# Altium footprint library chipi.PcbLib: 14 footprints
Each footprint in its own frame and in the unit in brackets; x right, y up, seen from the top. Pads: shape width x height; smd on the part's side, far side on the other; paste and mask are expansions set on the pad; w line width, h text height; cw(c..) or ccw(c..) is an arc to the next point about the centre after c.
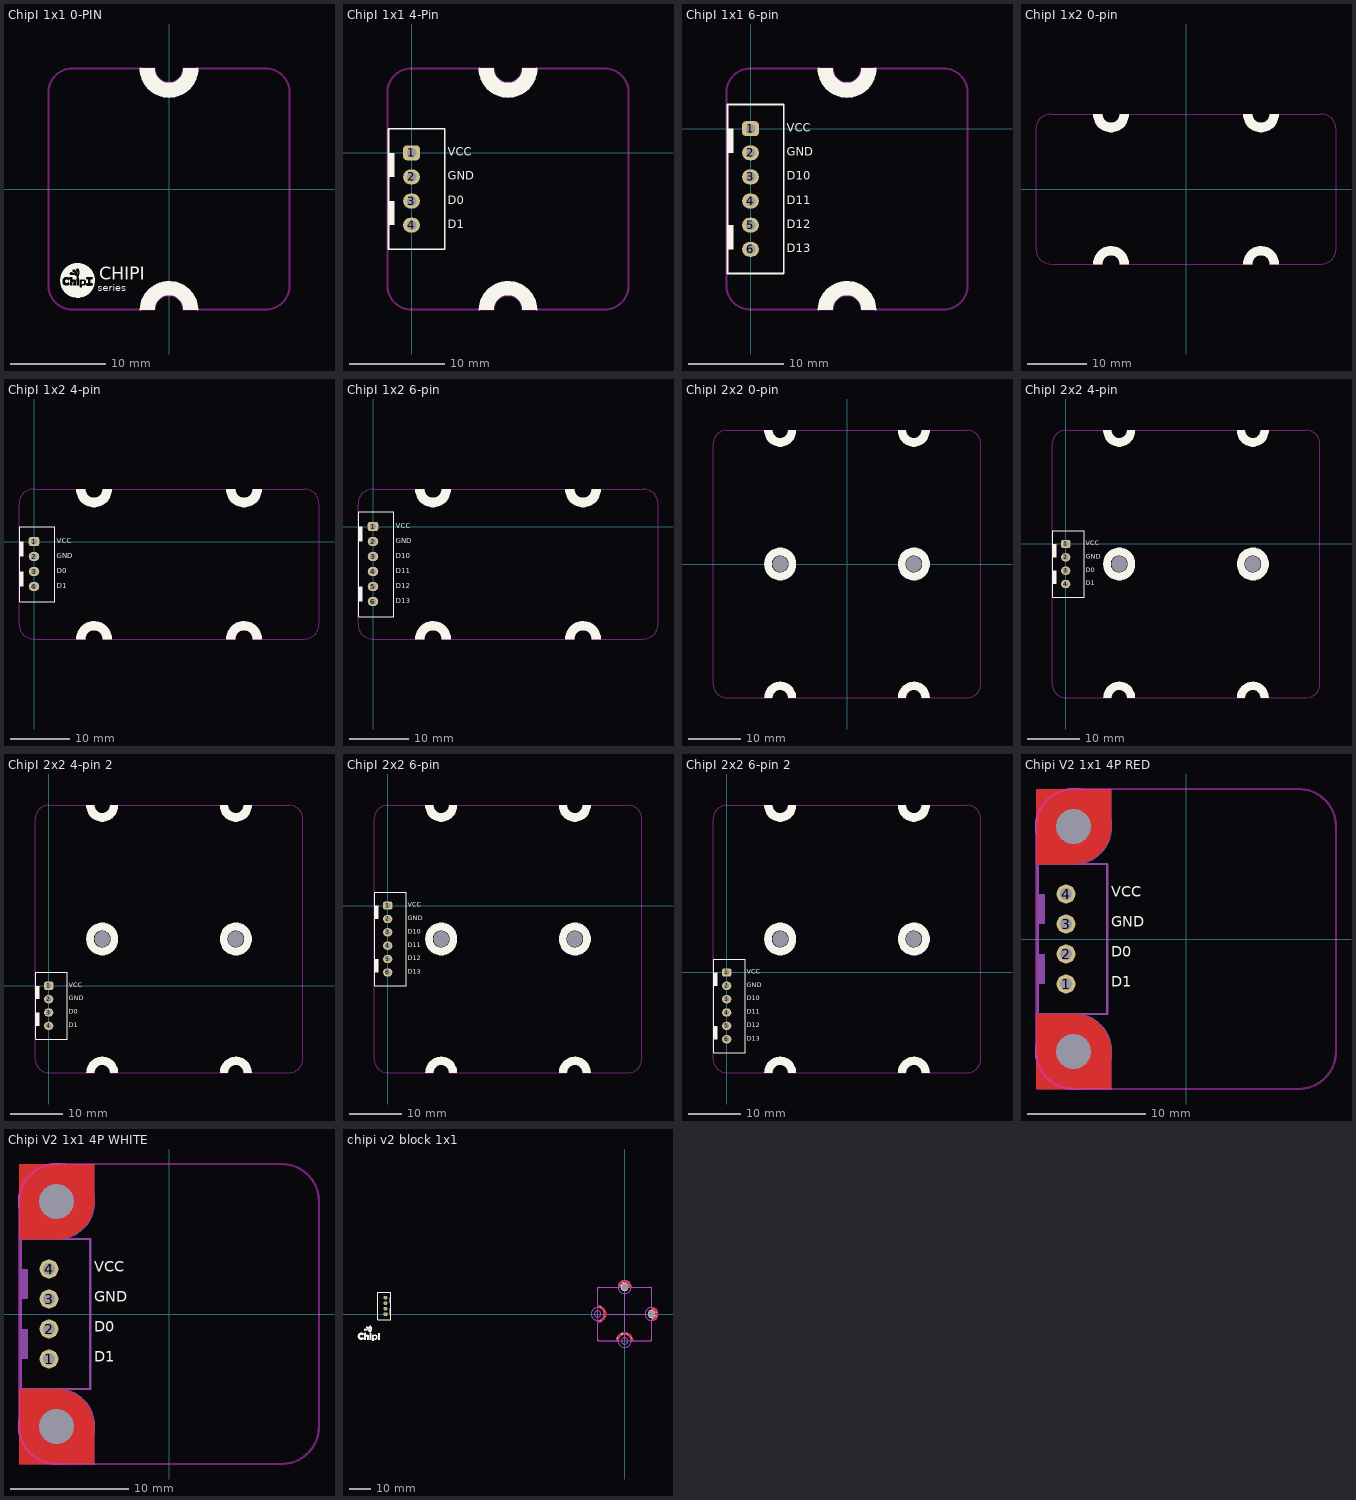
[diagram p0: the footprints below, top view; thin cyan lines are the x and y axes]

## ChipI 1x1 0-PIN [mil]
Top Overlay:
  drawing of 6 lines, arcs and shapes, not listed
  text "CHIPI" at -290,-395 h90
  text "series" at -295,-435 h50
Bottom Overlay:
  drawing of 7 lines, arcs and shapes, not listed
  text "Made in Vietnam" at 342,-32 h60
  text "by ChipFC" at 403,-32 h60
  text "www.chipfc.com" at 460,-28 h60
Keep-Out Layer:
  lines w8: -500,-400 ccw(c-400,-400) -400,-500 -59.06,-500 cw(c0,-500) 59.06,-500 400,-500 ccw(c400,-400) 500,-400 500,400 ccw(c400,400) 400,500 59.06,500 cw(c0,500) -59.06,500 -400,500 ccw(c-400,400) -500,400 -500,-400

## ChipI 1x1 4-Pin [mil]
pads (4):
  rrect50% 70x62 hole 39: 1(0,0)
  oval 70x62 hole 39: 2(0,-100) 3(0,-200) 4(0,-300)
Top Overlay:
  rectangle: -95,-100 -70,0
  rectangle: -95,-300 -70,-200
  region: 518.11,-650 459.06,-650 458.77,-644.21 456.51,-632.86 452.08,-622.16 445.65,-612.54 437.46,-604.35 427.84,-597.92 417.14,-593.49 405.79,-591.23 400,-590.94 394.21,-591.23 382.86,-593.49 372.16,-597.92 362.54,-604.35 354.35,-612.54 347.92,-622.16 343.49,-632.86 341.23,-644.21 340.94,-650 281.89,-650 282.87,-636.22 286.81,-616.54 294.69,-595.87 305.51,-580.12 321.26,-562.4 337.01,-551.57 349.8,-542.72 362.6,-537.8 374.41,-534.84 386.22,-532.87 399.02,-531.89 409.84,-531.89 429.53,-534.84 450.2,-542.72 460.04,-547.64 478.74,-561.42 492.52,-576.18 503.35,-593.9 513.19,-615.55 517.13,-631.3
  region: 281.89,350 340.94,350 341.23,344.21 343.49,332.86 347.92,322.16 354.35,312.54 362.54,304.35 372.16,297.92 382.86,293.49 394.21,291.23 400,290.94 405.79,291.23 417.14,293.49 427.84,297.92 437.46,304.35 445.65,312.54 452.08,322.16 456.51,332.86 458.77,344.21 459.06,350 518.11,350 517.13,336.22 513.19,316.54 505.31,295.87 494.49,280.12 478.74,262.4 462.99,251.57 450.2,242.72 437.4,237.8 425.59,234.84 413.78,232.87 400.98,231.89 390.16,231.89 370.47,234.84 349.8,242.72 339.96,247.64 321.26,261.42 307.48,276.18 296.65,293.9 286.81,315.55 282.87,331.3
  lines w8: 281.92,-649.29 cw(c400,-653.94) 518.08,-649.29 ; 281.89,350 ccw(c400,350) 518.11,350 ; -95,-400 -95,100 137.8,100 137.8,-400 -95,-400
  text "D1" at 150,-325 h60
  text "D0" at 150,-225 h60
  text "GND" at 150,-125 h60
  text "VCC" at 150,-25 h60
Bottom Overlay:
  drawing of 7 lines, arcs and shapes, not listed
  text "VCC" at 175,-25 h60
  text "GND" at 175,-125 h60
  text "D0" at 125,-225 h60
  text "D1" at 125,-325 h60
  text "www.chipfc.com" at 860,-178 h60
  text "by ChipFC" at 803,-182 h60
  text "Made in Vietnam" at 742,-182 h60
Keep-Out Layer:
  lines w8: -100,-550 ccw(c0,-550) 0,-650 340.94,-650 cw(c400,-650) 459.06,-650 800,-650 ccw(c800,-550) 900,-550 900,250 ccw(c800,250) 800,350 459.06,350 cw(c400,350) 340.94,350 0,350 ccw(c0,250) -100,250 -100,-550
3D body "User Library-PW10-04-M white.step": height 275.59, standoff -129.92, extent -89.41,-396.07 135,96.06

## ChipI 1x1 6-pin [mil]
pads (6):
  rrect50% 70x62 hole 39: 1(0,0)
  oval 70x62 hole 39: 2(0,-100) 3(0,-200) 4(0,-300) 5(0,-400) 6(0,-500)
Top Overlay:
  rectangle: -95,-100 -70,0
  rectangle: -95,-500 -70,-400
  region: 518.11,-750 459.06,-750 458.77,-744.21 456.51,-732.86 452.08,-722.16 445.65,-712.54 437.46,-704.35 427.84,-697.92 417.14,-693.49 405.79,-691.23 400,-690.94 394.21,-691.23 382.86,-693.49 372.16,-697.92 362.54,-704.35 354.35,-712.54 347.92,-722.16 343.49,-732.86 341.23,-744.21 340.94,-750 281.89,-750 282.87,-736.22 286.81,-716.54 294.69,-695.87 305.51,-680.12 321.26,-662.4 337.01,-651.57 349.8,-642.72 362.6,-637.8 374.41,-634.84 386.22,-632.87 399.02,-631.89 409.84,-631.89 429.53,-634.84 450.2,-642.72 460.04,-647.64 478.74,-661.42 492.52,-676.18 503.35,-693.9 513.19,-715.55 517.13,-731.3
  region: 281.89,250 340.94,250 341.23,244.21 343.49,232.86 347.92,222.16 354.35,212.54 362.54,204.35 372.16,197.92 382.86,193.49 394.21,191.23 400,190.94 405.79,191.23 417.14,193.49 427.84,197.92 437.46,204.35 445.65,212.54 452.08,222.16 456.51,232.86 458.77,244.21 459.06,250 518.11,250 517.13,236.22 513.19,216.54 505.31,195.87 494.49,180.12 478.74,162.4 462.99,151.57 450.2,142.72 437.4,137.8 425.59,134.84 413.78,132.87 400.98,131.89 390.16,131.89 370.47,134.84 349.8,142.72 339.96,147.64 321.26,161.42 307.48,176.18 296.65,193.9 286.81,215.55 282.87,231.3
  lines w8: 281.92,-749.29 cw(c400,-753.94) 518.08,-749.29 ; 281.89,250 ccw(c400,250) 518.11,250 ; -95,-600 -95,100 137.8,100 137.8,-600 -95,-600
  text "D13" at 150,-525 h60
  text "D12" at 150,-425 h60
  text "D11" at 150,-325 h60
  text "D10" at 150,-225 h60
  text "GND" at 150,-125 h60
  text "VCC" at 150,-25 h60
Bottom Overlay:
  drawing of 7 lines, arcs and shapes, not listed
  text "VCC" at 175,-25 h60
  text "GND" at 175,-125 h60
  text "D10" at 150,-225 h60
  text "D11" at 150,-325 h60
  text "D12" at 150,-425 h60
  text "D13" at 150,-525 h60
  text "Made in Vietnam" at 742,-282 h60
  text "by ChipFC" at 803,-282 h60
  text "www.chipfc.com" at 860,-278 h60
Keep-Out Layer:
  lines w8: -100,-650 ccw(c0,-650) 0,-750 340.94,-750 cw(c400,-750) 459.06,-750 800,-750 ccw(c800,-650) 900,-650 900,150 ccw(c800,150) 800,250 459.06,250 cw(c400,250) 340.94,250 0,250 ccw(c0,150) -100,150 -100,-650
3D body "User Library-PW10-06-M white.step": height 275.59, standoff -129.92, extent -89.41,-594.49 135,94.49

## ChipI 1x2 0-pin [mil]
Top Overlay:
  drawing of 8 lines, arcs and shapes, not listed
Bottom Overlay:
  drawing of 11 lines, arcs and shapes, not listed
  text "www.chipfc.com" at 960,-28 h60
  text "by ChipFC" at 903,-32 h60
  text "Made in Vietnam" at 842,-32 h60
Keep-Out Layer:
  lines w8: -1000,-400 ccw(c-900,-400) -900,-500 -559.06,-500 cw(c-500,-500) -440.94,-500 440.94,-500 cw(c500,-500) 559.06,-500 900,-500 ccw(c900,-400) 1000,-400 1000,400 ccw(c900,400) 900,500 559.06,500 cw(c500,500) 440.94,500 -440.94,500 cw(c-500,500) -559.06,500 -900,500 ccw(c-900,400) -1000,400 -1000,-400

## ChipI 1x2 4-pin [mil]
pads (4):
  rrect50% 70x62 hole 39: 1(0,0)
  oval 70x62 hole 39: 2(0,-100) 3(0,-200) 4(0,-300)
Top Overlay:
  drawing of 14 lines, arcs and shapes, not listed
  text "D1" at 150,-325 h60
  text "D0" at 150,-225 h60
  text "GND" at 150,-125 h60
  text "VCC" at 150,-25 h60
Bottom Overlay:
  drawing of 11 lines, arcs and shapes, not listed
  text "www.chipfc.com" at 1860,-178 h60
  text "by ChipFC" at 1803,-182 h60
  text "Made in Vietnam" at 1742,-182 h60
  text "VCC" at 175,-25 h60
  text "GND" at 175,-125 h60
  text "D0" at 125,-225 h60
  text "D1" at 125,-325 h60
Keep-Out Layer:
  lines w8: -100,-550 ccw(c0,-550) 0,-650 340.94,-650 cw(c400,-650) 459.06,-650 1340.94,-650 cw(c1400,-650) 1459.06,-650 1800,-650 ccw(c1800,-550) 1900,-550 1900,250 ccw(c1800,250) 1800,350 1459.06,350 cw(c1400,350) 1340.94,350 459.06,350 cw(c400,350) 340.94,350 0,350 ccw(c0,250) -100,250 -100,-550
3D body "User Library-PW10-04-M white.step": height 275.59, standoff -129.92, extent -89.41,-396.07 135,96.06

## ChipI 1x2 6-pin [mil]
pads (6):
  rrect50% 70x62 hole 39: 1(0,0)
  oval 70x62 hole 39: 2(0,-100) 3(0,-200) 4(0,-300) 5(0,-400) 6(0,-500)
Top Overlay:
  drawing of 14 lines, arcs and shapes, not listed
  text "D11" at 150,-325 h60
  text "D13" at 150,-525 h60
  text "VCC" at 150,-25 h60
  text "GND" at 150,-125 h60
  text "D10" at 150,-225 h60
  text "D12" at 150,-425 h60
Bottom Overlay:
  drawing of 11 lines, arcs and shapes, not listed
  text "www.chipfc.com" at 1860,-278 h60
  text "by ChipFC" at 1803,-282 h60
  text "Made in Vietnam" at 1742,-282 h60
  text "D12" at 150,-425 h60
  text "D10" at 150,-225 h60
  text "GND" at 175,-125 h60
  text "VCC" at 175,-25 h60
  text "D13" at 150,-525 h60
  text "D11" at 150,-325 h60
Keep-Out Layer:
  lines w8: -100,-650 ccw(c0,-650) 0,-750 340.94,-750 cw(c400,-750) 459.06,-750 1340.94,-750 cw(c1400,-750) 1459.06,-750 1800,-750 ccw(c1800,-650) 1900,-650 1900,150 ccw(c1800,150) 1800,250 1459.06,250 cw(c1400,250) 1340.94,250 459.06,250 cw(c400,250) 340.94,250 0,250 ccw(c0,150) -100,150 -100,-650
3D body "User Library-PW10-06-M white.step": height 275.59, standoff -129.92, extent -89.41,-594.49 135,94.49

## ChipI 2x2 0-pin [mm]
pads (2):
  round 0 hole 3: HOLE(-12.7,0) HOLE(12.7,0)
Top Overlay:
  drawing of 12 lines, arcs and shapes, not listed
Bottom Overlay:
  drawing of 15 lines, arcs and shapes, not listed
  text "Made in Vietnam" at 21.387,-13.513 h1.52
  text "by ChipFC" at 22.936,-13.513 h1.52
  text "www.chipfc.com" at 24.384,-13.411 h1.52
Keep-Out Layer:
  lines w0.203: -25.4,-22.86 ccw(c-22.86,-22.86) -22.86,-25.4 -14.2,-25.4 cw(c-12.7,-25.4) -11.2,-25.4 11.2,-25.4 cw(c12.7,-25.4) 14.2,-25.4 22.86,-25.4 ccw(c22.86,-22.86) 25.4,-22.86 25.4,22.86 ccw(c22.86,22.86) 22.86,25.4 14.2,25.4 cw(c12.7,25.4) 11.2,25.4 -11.2,25.4 cw(c-12.7,25.4) -14.2,25.4 -22.86,25.4 ccw(c-22.86,22.86) -25.4,22.86 -25.4,-22.86

## ChipI 2x2 4-pin [mil]
pads (6):
  rrect50% 70x62 hole 39: 1(0,0)
  oval 70x62 hole 39: 2(0,-100) 3(0,-200) 4(0,-300)
  round 0 hole 118.11: HOLE(400,-150) HOLE(1400,-150)
Top Overlay:
  drawing of 18 lines, arcs and shapes, not listed
  text "VCC" at 150,-25 h60
  text "GND" at 150,-125 h60
  text "D0" at 150,-225 h60
  text "D1" at 150,-325 h60
Bottom Overlay:
  drawing of 15 lines, arcs and shapes, not listed
  text "D1" at 125,-325 h60
  text "D0" at 125,-225 h60
  text "GND" at 175,-125 h60
  text "VCC" at 175,-25 h60
  text "Made in Vietnam" at 1742,-682 h60
  text "by ChipFC" at 1803,-682 h60
  text "www.chipfc.com" at 1860,-678 h60
Keep-Out Layer:
  lines w8: -100,-1050 ccw(c0,-1050) 0,-1150 340.94,-1150 cw(c400,-1150) 459.06,-1150 1340.94,-1150 cw(c1400,-1150) 1459.06,-1150 1800,-1150 ccw(c1800,-1050) 1900,-1050 1900,750 ccw(c1800,750) 1800,850 1459.06,850 cw(c1400,850) 1340.94,850 459.06,850 cw(c400,850) 340.94,850 0,850 ccw(c0,750) -100,750 -100,-1050
3D body "User Library-PW10-04-M white.step": height 275.59, standoff -129.92, extent -89.41,-396.07 135,96.06

## ChipI 2x2 4-pin 2 [mil]
pads (6):
  rrect50% 70x62 hole 39: 1(0,0)
  oval 70x62 hole 39: 2(0,-100) 3(0,-200) 4(0,-300)
  round 0 hole 118.11: HOLE(400,350) HOLE(1400,350)
Top Overlay:
  drawing of 18 lines, arcs and shapes, not listed
  text "VCC" at 150,-25 h60
  text "GND" at 150,-125 h60
  text "D0" at 150,-225 h60
  text "D1" at 150,-325 h60
Bottom Overlay:
  drawing of 15 lines, arcs and shapes, not listed
  text "D1" at 125,-325 h60
  text "D0" at 125,-225 h60
  text "GND" at 175,-125 h60
  text "VCC" at 175,-25 h60
  text "Made in Vietnam" at 1742,-182 h60
  text "by ChipFC" at 1803,-182 h60
  text "www.chipfc.com" at 1860,-178 h60
Keep-Out Layer:
  lines w8: -100,-550 ccw(c0,-550) 0,-650 340.94,-650 cw(c400,-650) 459.06,-650 1340.94,-650 cw(c1400,-650) 1459.06,-650 1800,-650 ccw(c1800,-550) 1900,-550 1900,1250 ccw(c1800,1250) 1800,1350 1459.06,1350 cw(c1400,1350) 1340.94,1350 459.06,1350 cw(c400,1350) 340.94,1350 0,1350 ccw(c0,1250) -100,1250 -100,-550
3D body "User Library-PW10-04-M white.step": height 275.59, standoff -129.92, extent -89.41,-396.07 135,96.06

## ChipI 2x2 6-pin [mil]
pads (8):
  rrect50% 70x62 hole 39: 1(0,0)
  oval 70x62 hole 39: 2(0,-100) 3(0,-200) 4(0,-300) 5(0,-400) 6(0,-500)
  round 0 hole 118.11: HOLE(400,-250) HOLE(1400,-250)
Top Overlay:
  drawing of 18 lines, arcs and shapes, not listed
  text "VCC" at 150,-25 h60
  text "GND" at 150,-125 h60
  text "D10" at 150,-225 h60
  text "D11" at 150,-325 h60
  text "D12" at 150,-425 h60
  text "D13" at 150,-525 h60
Bottom Overlay:
  drawing of 15 lines, arcs and shapes, not listed
  text "Made in Vietnam" at 1742,-782 h60
  text "by ChipFC" at 1803,-782 h60
  text "www.chipfc.com" at 1860,-778 h60
  text "D13" at 150,-525 h60
  text "D12" at 150,-425 h60
  text "D11" at 150,-325 h60
  text "D10" at 150,-225 h60
  text "GND" at 175,-125 h60
  text "VCC" at 175,-25 h60
Keep-Out Layer:
  lines w8: -100,-1150 ccw(c0,-1150) 0,-1250 340.94,-1250 cw(c400,-1250) 459.06,-1250 1340.94,-1250 cw(c1400,-1250) 1459.06,-1250 1800,-1250 ccw(c1800,-1150) 1900,-1150 1900,650 ccw(c1800,650) 1800,750 1459.06,750 cw(c1400,750) 1340.94,750 459.06,750 cw(c400,750) 340.94,750 0,750 ccw(c0,650) -100,650 -100,-1150
3D body "User Library-PW10-06-M white.step": height 275.59, standoff -129.92, extent -89.41,-594.49 135,94.49

## ChipI 2x2 6-pin 2 [mil]
pads (8):
  rrect50% 70x62 hole 39: 1(0,0)
  oval 70x62 hole 39: 2(0,-100) 3(0,-200) 4(0,-300) 5(0,-400) 6(0,-500)
  round 0 hole 118.11: HOLE(400,250) HOLE(1400,250)
Top Overlay:
  drawing of 18 lines, arcs and shapes, not listed
  text "D11" at 150,-325 h60
  text "D13" at 150,-525 h60
  text "VCC" at 150,-25 h60
  text "GND" at 150,-125 h60
  text "D10" at 150,-225 h60
  text "D12" at 150,-425 h60
Bottom Overlay:
  drawing of 15 lines, arcs and shapes, not listed
  text "D12" at 150,-425 h60
  text "D10" at 150,-225 h60
  text "GND" at 175,-125 h60
  text "VCC" at 175,-25 h60
  text "D13" at 150,-525 h60
  text "D11" at 150,-325 h60
  text "www.chipfc.com" at 1860,-278 h60
  text "by ChipFC" at 1803,-282 h60
  text "Made in Vietnam" at 1742,-282 h60
Keep-Out Layer:
  lines w8: -100,-650 ccw(c0,-650) 0,-750 340.94,-750 cw(c400,-750) 459.06,-750 1340.94,-750 cw(c1400,-750) 1459.06,-750 1800,-750 ccw(c1800,-650) 1900,-650 1900,1150 ccw(c1800,1150) 1800,1250 1459.06,1250 cw(c1400,1250) 1340.94,1250 459.06,1250 cw(c400,1250) 340.94,1250 0,1250 ccw(c0,1150) -100,1150 -100,-650
3D body "User Library-PW10-06-M white.step": height 275.59, standoff -129.92, extent -89.41,-594.49 135,94.49

## Chipi V2 1x1 4P RED [mm]
pads (6):
  round 1.6 hole 1: 1(-10.16,-3.81) 2(-10.16,-1.27) 3(-10.16,1.27) 4(-10.16,3.81)
  round 0 hole 3 unplated: HOLE(-9.525,-9.525) HOLE(-9.525,9.525)
Top Layer:
  pour cut-out: -6.35,12.7 -6.35,9.525 -6.35,9.317 -6.404,8.904 -6.512,8.502 -6.671,8.118 -6.879,7.757 -7.133,7.427 -7.427,7.133 -7.757,6.879 -8.118,6.671 -8.502,6.512 -8.904,6.404 -9.317,6.35 -9.525,6.35 -12.7,6.35 -12.7,12.7
  pour cut-out: -12.7,-6.35 -9.525,-6.35 -9.317,-6.35 -8.904,-6.404 -8.502,-6.512 -8.118,-6.671 -7.757,-6.879 -7.427,-7.133 -7.133,-7.427 -6.879,-7.757 -6.671,-8.118 -6.512,-8.502 -6.404,-8.904 -6.35,-9.317 -6.35,-9.525 -6.35,-12.7 -12.7,-12.7
Bottom Layer:
  pour cut-out: -12.7,-6.35 -9.525,-6.35 -9.317,-6.35 -8.904,-6.404 -8.502,-6.512 -8.118,-6.671 -7.757,-6.879 -7.427,-7.133 -7.133,-7.427 -6.879,-7.757 -6.671,-8.118 -6.512,-8.502 -6.404,-8.904 -6.35,-9.317 -6.35,-9.525 -6.35,-12.7 -12.7,-12.7
  pour cut-out: -6.35,12.7 -6.35,9.525 -6.35,9.317 -6.404,8.904 -6.512,8.502 -6.671,8.118 -6.879,7.757 -7.133,7.427 -7.427,7.133 -7.757,6.879 -8.118,6.671 -8.502,6.512 -8.904,6.404 -9.317,6.35 -9.525,6.35 -12.7,6.35 -12.7,12.7
Top Overlay:
  text "D1" at -6.35,-4.318 h1.52
  text "D0" at -6.35,-1.778 h1.52
  text "GND" at -6.35,0.762 h1.52
  text "VCC" at -6.35,3.302 h1.52
Bottom Overlay:
  drawing of 3 lines, arcs and shapes, not listed
  text "VCC" at -5.842,3.302 h1.52
  text "GND" at -5.715,0.762 h1.52
  text "D0" at -7.112,-1.778 h1.52
  text "D1" at -7.239,-4.318 h1.52
  text "chipfc.com" at 4.35,-11.861 h1.52
Keep-Out Layer:
  lines w0.203: -12.7,-9.525 ccw(c-9.525,-9.525) -9.525,-12.7 9.525,-12.7 ccw(c9.525,-9.525) 12.7,-9.525 12.7,9.525 ccw(c9.525,9.525) 9.525,12.7 -9.525,12.7 ccw(c-9.525,9.525) -12.7,9.525 -12.7,-9.525
Mechanical 1:
  circle w0.203: c-9.525,-9.525 r3.175
  circle w0.203: c-9.525,9.525 r3.175
  rectangle: -12.573,1.27 -11.938,3.81
  rectangle: -12.573,-3.81 -11.938,-1.27
  lines w0.203: -12.56,-6.35 -6.66,-6.35 -6.66,6.35 -12.56,6.35 -12.56,-6.35
3D body "JST-B4B-XH-RED.STEP": height 7, standoff -3.4, extent -12.46,-6.2 -6.71,6.2

## Chipi V2 1x1 4P WHITE [mm]
pads (6):
  round 1.6 hole 1: 1(-10.16,-3.81) 2(-10.16,-1.27) 3(-10.16,1.27) 4(-10.16,3.81)
  round 0 hole 3 unplated: HOLE(-9.525,-9.525) HOLE(-9.525,9.525)
Top Layer:
  pour cut-out: -6.35,12.7 -6.35,9.525 -6.35,9.317 -6.404,8.904 -6.512,8.502 -6.671,8.118 -6.879,7.757 -7.133,7.427 -7.427,7.133 -7.757,6.879 -8.118,6.671 -8.502,6.512 -8.904,6.404 -9.317,6.35 -9.525,6.35 -12.7,6.35 -12.7,12.7
  pour cut-out: -12.7,-6.35 -9.525,-6.35 -9.317,-6.35 -8.904,-6.404 -8.502,-6.512 -8.118,-6.671 -7.757,-6.879 -7.427,-7.133 -7.133,-7.427 -6.879,-7.757 -6.671,-8.118 -6.512,-8.502 -6.404,-8.904 -6.35,-9.317 -6.35,-9.525 -6.35,-12.7 -12.7,-12.7
Bottom Layer:
  pour cut-out: -12.7,-6.35 -9.525,-6.35 -9.317,-6.35 -8.904,-6.404 -8.502,-6.512 -8.118,-6.671 -7.757,-6.879 -7.427,-7.133 -7.133,-7.427 -6.879,-7.757 -6.671,-8.118 -6.512,-8.502 -6.404,-8.904 -6.35,-9.317 -6.35,-9.525 -6.35,-12.7 -12.7,-12.7
  pour cut-out: -6.35,12.7 -6.35,9.525 -6.35,9.317 -6.404,8.904 -6.512,8.502 -6.671,8.118 -6.879,7.757 -7.133,7.427 -7.427,7.133 -7.757,6.879 -8.118,6.671 -8.502,6.512 -8.904,6.404 -9.317,6.35 -9.525,6.35 -12.7,6.35 -12.7,12.7
Top Overlay:
  text "D1" at -6.35,-4.318 h1.52
  text "D0" at -6.35,-1.778 h1.52
  text "GND" at -6.35,0.762 h1.52
  text "VCC" at -6.35,3.302 h1.52
Bottom Overlay:
  drawing of 3 lines, arcs and shapes, not listed
  text "VCC" at -5.842,3.302 h1.52
  text "GND" at -5.715,0.762 h1.52
  text "D0" at -7.112,-1.778 h1.52
  text "D1" at -7.239,-4.318 h1.52
  text "chipfc.com" at 4.35,-11.861 h1.52
Keep-Out Layer:
  lines w0.203: -12.7,-9.525 ccw(c-9.525,-9.525) -9.525,-12.7 9.525,-12.7 ccw(c9.525,-9.525) 12.7,-9.525 12.7,9.525 ccw(c9.525,9.525) 9.525,12.7 -9.525,12.7 ccw(c-9.525,9.525) -12.7,9.525 -12.7,-9.525
Mechanical 1:
  circle w0.203: c-9.525,-9.525 r3.175
  circle w0.203: c-9.525,9.525 r3.175
  rectangle: -12.573,1.27 -11.938,3.81
  rectangle: -12.573,-3.81 -11.938,-1.27
  lines w0.203: -12.56,-6.35 -6.66,-6.35 -6.66,6.35 -12.56,6.35 -12.56,-6.35
3D body "JST-B4B-XH-WHITE.STEP": height 7, standoff -3.4, extent -12.46,-6.2 -6.71,6.2

## chipi v2 block 1x1 [mm]
pads (6):
  rrect50% 1.8x1.6 hole 1: 1(-111,-0.04)
  oval 1.8x1.6 hole 1: 2(-111,2.5) 3(-111,5.04) 4(-111,7.58)
  round 0 hole 3.1 unplated: HOLE(0,12.5) HOLE(12.5,0)
via 3.25,-11.25 diameter 0.8 hole 0.4
via -1.25,-9.25 diameter 0.8 hole 0.4
via -3.25,-11.25 diameter 0.8 hole 0.4
via 1.25,-9.25 diameter 0.8 hole 0.4
via -9.25,-1.25 diameter 0.8 hole 0.4
via -11.25,3.25 diameter 0.8 hole 0.4
via -9.25,1.25 diameter 0.8 hole 0.4
via -11.25,-3.25 diameter 0.8 hole 0.4
via 2.125,13.3 diameter 0.8 hole 0.4
via 0.825,14.575 diameter 0.8 hole 0.4
via -2.075,13.325 diameter 0.8 hole 0.4
via -0.8,14.625 diameter 0.8 hole 0.4
via 14.625,0.8 diameter 0.8 hole 0.4
via 13.325,2.075 diameter 0.8 hole 0.4
via 14.575,-0.825 diameter 0.8 hole 0.4
via 13.3,-2.125 diameter 0.8 hole 0.4
Top Layer:
  region: -3,12.5 -1.5,12.5 -1.493,12.647 -1.435,12.935 -1.323,13.207 -1.16,13.452 -0.952,13.66 -0.707,13.823 -0.435,13.935 -0.147,13.993 0,14 0.147,13.993 0.435,13.935 0.707,13.823 0.952,13.66 1.16,13.452 1.323,13.207 1.435,12.935 1.493,12.647 1.5,12.5 3,12.5 3,12.697 2.949,13.087 2.847,13.466 2.696,13.83 2.5,14.17 2.26,14.482 1.982,14.76 1.67,15 1.33,15.196 0.966,15.347 0.587,15.449 0.197,15.5 0,15.5 -0.197,15.5 -0.587,15.449 -0.966,15.347 -1.33,15.196 -1.67,15 -1.982,14.76 -2.26,14.482 -2.5,14.17 -2.696,13.83 -2.847,13.466 -2.949,13.087 -3,12.697
  region: 12.5,3 12.5,1.5 12.647,1.493 12.935,1.435 13.207,1.323 13.452,1.16 13.66,0.952 13.823,0.707 13.935,0.435 13.993,0.147 14,0 13.993,-0.147 13.935,-0.435 13.823,-0.707 13.66,-0.952 13.452,-1.16 13.207,-1.323 12.935,-1.435 12.647,-1.493 12.5,-1.5 12.5,-3 12.697,-3 13.087,-2.949 13.466,-2.847 13.83,-2.696 14.17,-2.5 14.482,-2.26 14.76,-1.982 15,-1.67 15.196,-1.33 15.347,-0.966 15.449,-0.587 15.5,-0.197 15.5,0 15.5,0.197 15.449,0.587 15.347,0.966 15.196,1.33 15,1.67 14.76,1.982 14.482,2.26 14.17,2.5 13.83,2.696 13.466,2.847 13.087,2.949 12.697,3
  region: -3,-12.5 -2.994,-12.304 -2.942,-11.915 -2.841,-11.536 -2.691,-11.173 -2.494,-10.833 -2.256,-10.522 -1.978,-10.244 -1.667,-10.006 -1.327,-9.809 -0.964,-9.659 -0.585,-9.558 -0.196,-9.506 0,-9.5 0.196,-9.506 0.585,-9.558 0.964,-9.659 1.327,-9.809 1.667,-10.006 1.978,-10.244 2.256,-10.522 2.494,-10.833 2.691,-11.173 2.841,-11.536 2.942,-11.915 2.994,-12.304 3,-12.5 4,-12.5 4,-12.238 3.932,-11.718 3.796,-11.211 3.595,-10.727 3.333,-10.273 3.014,-9.857 2.643,-9.486 2.227,-9.167 1.773,-8.905 1.289,-8.704 0.782,-8.568 0.262,-8.5 0,-8.5 -0.262,-8.5 -0.782,-8.568 -1.289,-8.704 -1.773,-8.905 -2.227,-9.167 -2.643,-9.486 -3.014,-9.857 -3.333,-10.273 -3.595,-10.727 -3.796,-11.211 -3.932,-11.718 -4,-12.238 -4,-12.5
  region: -12.5,3 -12.304,2.994 -11.915,2.942 -11.536,2.841 -11.173,2.691 -10.833,2.494 -10.522,2.256 -10.244,1.978 -10.006,1.667 -9.809,1.327 -9.659,0.964 -9.558,0.585 -9.506,0.196 -9.5,0 -9.506,-0.196 -9.558,-0.585 -9.659,-0.964 -9.809,-1.327 -10.006,-1.667 -10.244,-1.978 -10.522,-2.256 -10.833,-2.494 -11.173,-2.691 -11.536,-2.841 -11.915,-2.942 -12.304,-2.994 -12.5,-3 -12.5,-4 -12.238,-4 -11.718,-3.932 -11.211,-3.796 -10.727,-3.595 -10.273,-3.333 -9.857,-3.014 -9.486,-2.643 -9.167,-2.227 -8.905,-1.773 -8.704,-1.289 -8.568,-0.782 -8.5,-0.262 -8.5,0 -8.5,0.262 -8.568,0.782 -8.704,1.289 -8.905,1.773 -9.167,2.227 -9.486,2.643 -9.857,3.014 -10.273,3.333 -10.727,3.595 -11.211,3.796 -11.718,3.932 -12.238,4 -12.5,4
Bottom Layer:
  region: -3,12.5 -1.5,12.5 -1.493,12.647 -1.435,12.935 -1.323,13.207 -1.16,13.452 -0.952,13.66 -0.707,13.823 -0.435,13.935 -0.147,13.993 0,14 0.147,13.993 0.435,13.935 0.707,13.823 0.952,13.66 1.16,13.452 1.323,13.207 1.435,12.935 1.493,12.647 1.5,12.5 3,12.5 3,12.697 2.949,13.087 2.847,13.466 2.696,13.83 2.5,14.17 2.26,14.482 1.982,14.76 1.67,15 1.33,15.196 0.966,15.347 0.587,15.449 0.197,15.5 0,15.5 -0.197,15.5 -0.587,15.449 -0.966,15.347 -1.33,15.196 -1.67,15 -1.982,14.76 -2.26,14.482 -2.5,14.17 -2.696,13.83 -2.847,13.466 -2.949,13.087 -3,12.697
  region: 12.5,3 12.5,1.5 12.647,1.493 12.935,1.435 13.207,1.323 13.452,1.16 13.66,0.952 13.823,0.707 13.935,0.435 13.993,0.147 14,0 13.993,-0.147 13.935,-0.435 13.823,-0.707 13.66,-0.952 13.452,-1.16 13.207,-1.323 12.935,-1.435 12.647,-1.493 12.5,-1.5 12.5,-3 12.697,-3 13.087,-2.949 13.466,-2.847 13.83,-2.696 14.17,-2.5 14.482,-2.26 14.76,-1.982 15,-1.67 15.196,-1.33 15.347,-0.966 15.449,-0.587 15.5,-0.197 15.5,0 15.5,0.197 15.449,0.587 15.347,0.966 15.196,1.33 15,1.67 14.76,1.982 14.482,2.26 14.17,2.5 13.83,2.696 13.466,2.847 13.087,2.949 12.697,3
  region: -3,-12.5 -2.994,-12.304 -2.942,-11.915 -2.841,-11.536 -2.691,-11.173 -2.494,-10.833 -2.256,-10.522 -1.978,-10.244 -1.667,-10.006 -1.327,-9.809 -0.964,-9.659 -0.585,-9.558 -0.196,-9.506 0,-9.5 0.196,-9.506 0.585,-9.558 0.964,-9.659 1.327,-9.809 1.667,-10.006 1.978,-10.244 2.256,-10.522 2.494,-10.833 2.691,-11.173 2.841,-11.536 2.942,-11.915 2.994,-12.304 3,-12.5 4,-12.5 4,-12.238 3.932,-11.718 3.796,-11.211 3.595,-10.727 3.333,-10.273 3.014,-9.857 2.643,-9.486 2.227,-9.167 1.773,-8.905 1.289,-8.704 0.782,-8.568 0.262,-8.5 0,-8.5 -0.262,-8.5 -0.782,-8.568 -1.289,-8.704 -1.773,-8.905 -2.227,-9.167 -2.643,-9.486 -3.014,-9.857 -3.333,-10.273 -3.595,-10.727 -3.796,-11.211 -3.932,-11.718 -4,-12.238 -4,-12.5
  region: -12.5,3 -12.304,2.994 -11.915,2.942 -11.536,2.841 -11.173,2.691 -10.833,2.494 -10.522,2.256 -10.244,1.978 -10.006,1.667 -9.809,1.327 -9.659,0.964 -9.558,0.585 -9.506,0.196 -9.5,0 -9.506,-0.196 -9.558,-0.585 -9.659,-0.964 -9.809,-1.327 -10.006,-1.667 -10.244,-1.978 -10.522,-2.256 -10.833,-2.494 -11.173,-2.691 -11.536,-2.841 -11.915,-2.942 -12.304,-2.994 -12.5,-3 -12.5,-4 -12.238,-4 -11.718,-3.932 -11.211,-3.796 -10.727,-3.595 -10.273,-3.333 -9.857,-3.014 -9.486,-2.643 -9.167,-2.227 -8.905,-1.773 -8.704,-1.289 -8.568,-0.782 -8.5,-0.262 -8.5,0 -8.5,0.262 -8.568,0.782 -8.704,1.289 -8.905,1.773 -9.167,2.227 -9.486,2.643 -9.857,3.014 -10.273,3.333 -10.727,3.595 -11.211,3.796 -11.718,3.932 -12.238,4 -12.5,4
Top Overlay:
  drawing of 22 lines, arcs and shapes, not listed
Top Solder:
  drawing of 16 lines, arcs and shapes, not listed
Bottom Solder:
  drawing of 4 lines, arcs and shapes, not listed
Keep-Out Layer:
  lines w0.254: -12.5,-11.5 ccw(c-11.5,-11.5) -11.5,-12.5 -3,-12.5 cw(c0,-12.5) 3,-12.5 11.5,-12.5 ccw(c11.5,-11.5) 12.5,-11.5 12.5,-3 ccw(c12.5,0) 12.5,3 12.5,11.5 ccw(c11.5,11.5) 11.5,12.5 3,12.5 ccw(c0,12.5) -3,12.5 -11.5,12.5 ccw(c-11.5,11.5) -12.5,11.5 -12.5,3 cw(c-12.5,0) -12.5,-3 -12.5,-11.5
Mechanical 30:
  circle w0.254: c0,-12.5 r1.5
  circle w0.254: c-12.5,0 r1.5
  circle w0.254: c-12.5,0 r3
  circle w0.254: c0,-12.5 r3
  circle w0.254: c12.5,0 r3
  circle w0.254: c0,12.5 r3
  circle w0.254: c12.5,0 r1.5
  circle w0.254: c0,12.5 r1.5
  lines w0.254: -12.5,0 12.5,0 ; 0,-12.5 0,12.5 ; -12.5,-12.5 -12.5,12.5 12.5,12.5 12.5,-12.5 -12.5,-12.5
3D body "User Library-PW10-04-M white.step": height 7, standoff -3.3, extent -114.4,-2.48 -108.7,10.02
3D body "User Library-conector S6B-PH-SM4-TB.step": height 4.9, standoff 0.1, extent -103.85,15.8 -95.25,29.7
3D body "User Library-b6b-ph-ks.step": height 6, standoff -3, extent -102.75,-2.65 -98.25,11.25
3D body "User Library-XHB-2_54-4P.step": height 6.5, standoff 0.03, extent -125.5,-2.75 -115.314,12.25